# EAGLE library part USB-MINIB (library borkedlabs-connectors)
Mini-USB "B" connector with 5th pin broken out. Created new symbol breaking out 5th "ID" pin in mini/micro USB connector spec. See: http://en.wikipedia.org/wiki/Mini_usb#Cables. Uses same footprint as 4-pin symbol. Also added pins to connect to mounting / shield pads if required (probably not generally needed as signals aren't shielded once they leave the connector).
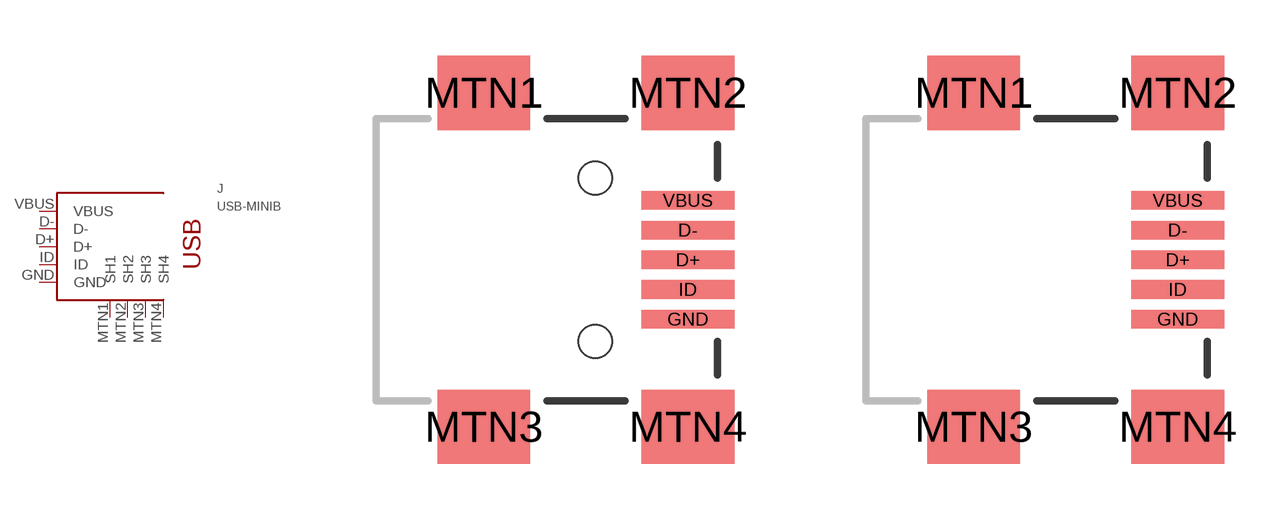
[diagram p1: symbol with the pads of USB-MINIB; footprints USB-MINIB, USB-MINIB-NO_POSTS]

Designator prefix J

## USB-MINIB-5PIN  [USB-MINIB]
D+  D+
D-  D-
GND  GND
ID  ID
MTN1  SH1
MTN2  SH2
MTN3  SH3
MTN4  SH4
VBUS  VBUS

## USB-MINIB-5PIN-NO_POSTS  [USB-MINIB-NO_POSTS]
Pads as for USB-MINIB

## USB-MINIB  [HIROSE_UX60RA-MB-5ST]
1  VBUS
2  D-
3  D+
4  ID
5  GND
SH  SH1
SH@1  SH2
SH@2  SH3
SH@3  SH4

## Footprint USB-MINIB (pad centres in mm)
USB Series Mini-B Surface Mounted
smd 2.5 x 0.5: D+ 2.5,0; D- 2.5,0.8; GND 2.5,-1.6; ID 2.5,-0.8; VBUS 2.5,1.6
smd 2.5 x 2: MTN1 -3,4.5; MTN2 2.5,4.5; MTN3 -3,-4.5; MTN4 2.5,-4.5
hole 0.9 at 0,2.2
hole 0.9 at 0,-2.2

## Footprint USB-MINIB-NO_POSTS (pad centres in mm)
USB Series Mini-B Surface Mounted
smd 2.5 x 0.5: D+ 2.5,0; D- 2.5,0.8; GND 2.5,-1.6; ID 2.5,-0.8; VBUS 2.5,1.6
smd 2.5 x 2: MTN1 -3,4.5; MTN2 2.5,4.5; MTN3 -3,-4.5; MTN4 2.5,-4.5

## Footprint HIROSE_UX60RA-MB-5ST (pad centres in mm)
smd 1.5 x 0.5: 1 5.65,1.6; 2 5.65,0.8; 3 5.65,0; 4 5.65,-0.8; 5 5.65,-1.6
smd 1.95 x 2.4: SH 1.35,4.55; SH@2 1.35,-4.55
smd 2.2 x 2.4: SH@1 4.55,4.55; SH@3 4.55,-4.55